# EAGLE library part BGS12P2L6E6327XTSA1 (library BGS12P2L6E6327XTSA1)
RF Switch IC Check availability <https://pricing.snapeda.com/parts/BGS12P2L6E6327XTSA1/Infineon%20Technologies/view-part?ref=eda>
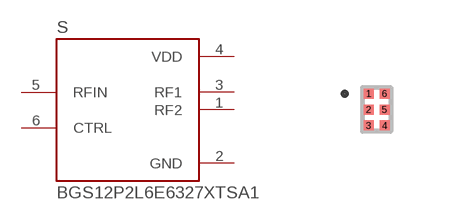
[diagram p0: symbol with the pads of SW_BGS12P2L6E6327XTSA1; footprint SW_BGS12P2L6E6327XTSA1]

Designator prefix S

## BGS12P2L6E6327XTSA1 (AVAILABILITY: In Stock; CHECK_PRICES: https://www.snapeda.com/parts/BGS12P2L6E6327XTSA1/Infineon+Technologies/view-part/?ref=eda; DESCRIPTION: RF Switch IC GSM, LTE, W-CDMA SPDT 50Ohm PG-TSLP-6-4; MF: Infineon Technologies; MP: BGS12P2L6E6327XTSA1; PACKAGE: TSNP-6 Infineon Technologies; PRICE: None; PURCHASE-URL: https://www.snapeda.com/api/url_track_click_mouser/?unipart_id=4625084&manufacturer=Infineon Technologies&part_name=BGS12P2L6E6327XTSA1&search_term=None; SNAPEDA_LINK: https://www.snapeda.com/parts/BGS12P2L6E6327XTSA1/Infineon+Technologies/view-part/?ref=snap)  [SW_BGS12P2L6E6327XTSA1]
1  RF2
2  GND  pwr
3  RF1
4  VDD  pwr
5  RFIN  in
6  CTRL  in

## Footprint SW_BGS12P2L6E6327XTSA1 (pad centres in mm)
smd 0.25 x 0.25: 1 -0.2,0.4; 2 -0.2,0; 3 -0.2,-0.4; 4 0.2,-0.4; 5 0.2,0; 6 0.2,0.4